# Altium schematic symbol library Components - 25.02.24 - 15.51.SchLib: 2 symbols
Pins are listed as number, name and electrical type; pins without a type are passive.

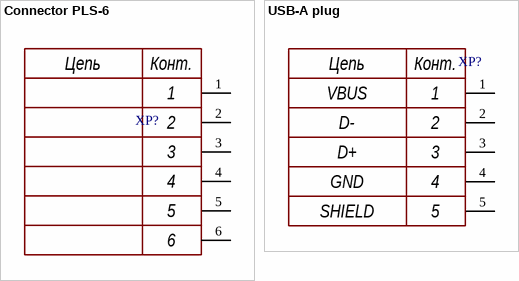
[diagram p0: symbols Connector PLS-6 to USB-A plug]

## Connector PLS-6
designator XP?  (value not drawn)
footprint PLS-6
pins: 1, 2, 3, 4, 5, 6
text: Цепь; Конт.

## USB-A plug
designator XP?, comment 480-37-1000  (value not drawn)
Universal Serial Bus (USB) Shielded I/O Plug, Type A, Right Angle Connector, 1.5 A, -20 to 85 degC, 4-Pin SMD, RoHS, Tray; Voltage Rating (DC): 50 V; Tolerance: 1%; Resistance: 1 mohm; Power Rating: 100 mW; Case\Package: 0603; PackageDescription: 4-Pin Surface Mount Device, Body 12 x 18.8 mm; Max Operating Temperature: 155 degC; PackageReference: 480-37-1000; ComponentLink2Description: Datasheet; ComponentLink1Description: Manufacturer URL; Packaging: Tape and Reel; REACH SVHC: No SVHC; Width: 0.8 mm; Case Code (Imperial): 0603; Pins: 2; Length: 1.6 mm; DatasheetVersion: Rev. D, 06/2004; Voltage Rating: 50 V; ComponentLink1URL: http://www.molex.com/; Mount: Surface Mount; Case Code (Metric): 1608; ComponentLink2URL: http://www.molex.com/pdm_docs/sd/480371000_sd.pdf; RoHSCompliant: true; Min Operating Temperature: -55 degC; Package Quantity: 5000; Height: 0.45 mm
footprint MOLX-480-37-1000_V (CONN, 4-Leads, Body 12x18.8mm)
pins: 1 VBUS, 2 D-, 3 D+, 4 GND, 5 SHLD
text: Цепь; Конт.; SHIELD